# EAGLE library part TL081CD (library TL081CD)
Check availability <https://pricing.snapeda.com/parts/TL081CD/Texas%20Instruments/view-part?ref=eda>
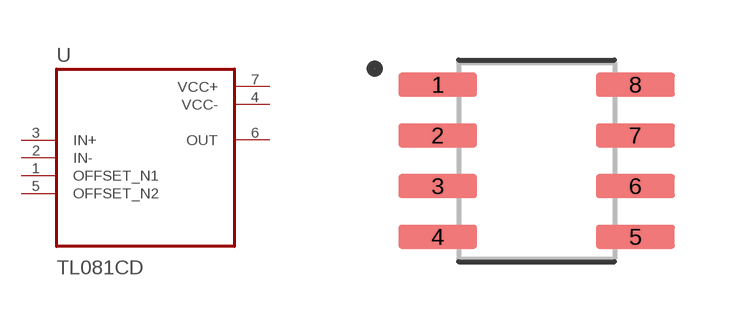
[diagram p0: symbol with the pads of SOIC127P599X175-8N; footprint SOIC127P599X175-8N]

Designator prefix U

## TL081CD (Availability: In Stock; Check_prices: https://www.snapeda.com/parts/TL081CD/Texas+Instruments/view-part/?ref=eda; Description: Single, 30-V, 3-MHz, 13-V/µs slew rate, In to V+, JFET-input op amp; MF: Texas Instruments; MP: TL081CD; Package: SOIC-8 Texas Instruments; Price: None; Purchase-URL: https://www.snapeda.com/api/url_track_click_mouser/?unipart_id=4793911&manufacturer=Texas Instruments&part_name=TL081CD&search_term=tl081; SnapEDA_Link: https://www.snapeda.com/parts/TL081CD/Texas+Instruments/view-part/?ref=snap)  [SOIC127P599X175-8N]
1  OFFSET_N1  in
2  IN-  in
3  IN+  in
4  VCC-  pwr
5  OFFSET_N2  in
6  OUT  out
7  VCC+  pwr

## Footprint SOIC127P599X175-8N (pad centres in mm)
smd 1.97 x 0.6: 1 -2.47,1.905; 2 -2.47,0.635; 3 -2.47,-0.635; 4 -2.47,-1.905; 5 2.47,-1.905; 6 2.47,-0.635; 7 2.47,0.635; 8 2.47,1.905